# EAGLE library part 691412120013 (library Wurth_Elektronik_Electromechanic_Terminal_Blocks_Connectors_rev15c)
WR-TBL Serie 412 - 3.5mm Screwless 45° Entry Grey - 1.5mm2 Wires, 13 Pins
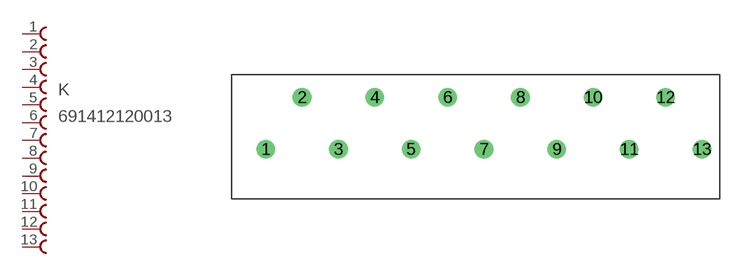
[diagram p220: symbol with the pads of 691412120013; footprint 691412120013]

Designator prefix K

## 691412120013  [691412120013]
1  1  pas
2  2  pas
3  3  pas
4  4  pas
5  5  pas
6  6  pas
7  7  pas
8  8  pas
9  9  pas
10  10  pas
11  11  pas
12  12  pas
13  13  pas

## Footprint 691412120013 (pad centres in mm)
WR-TBL Serie 412 - 3.5mm Screwless 45° Entry Grey - 1.5mm2 Wires, 13 Pins
drill 1.2: 1 -41.97,0; 2 -38.47,5; 3 -34.97,0; 4 -31.47,5; 5 -27.97,0; 6 -24.47,5; 7 -20.97,0; 8 -17.47,5; 9 -13.97,0; 10 -10.47,5; 11 -7,0; 12 -3.5,5; 13 0,0